# Altium footprint library ZICM2410 Eva Kit PCB 5.0.PcbLib: 38 footprints (part 2 of 3)
Each footprint in its own frame and in the unit in brackets; x right, y up, seen from the top. Pads: shape width x height; smd on the part's side, far side on the other; paste and mask are expansions set on the pad; w line width, h text height; cw(c..) or ccw(c..) is an arc to the next point about the centre after c.
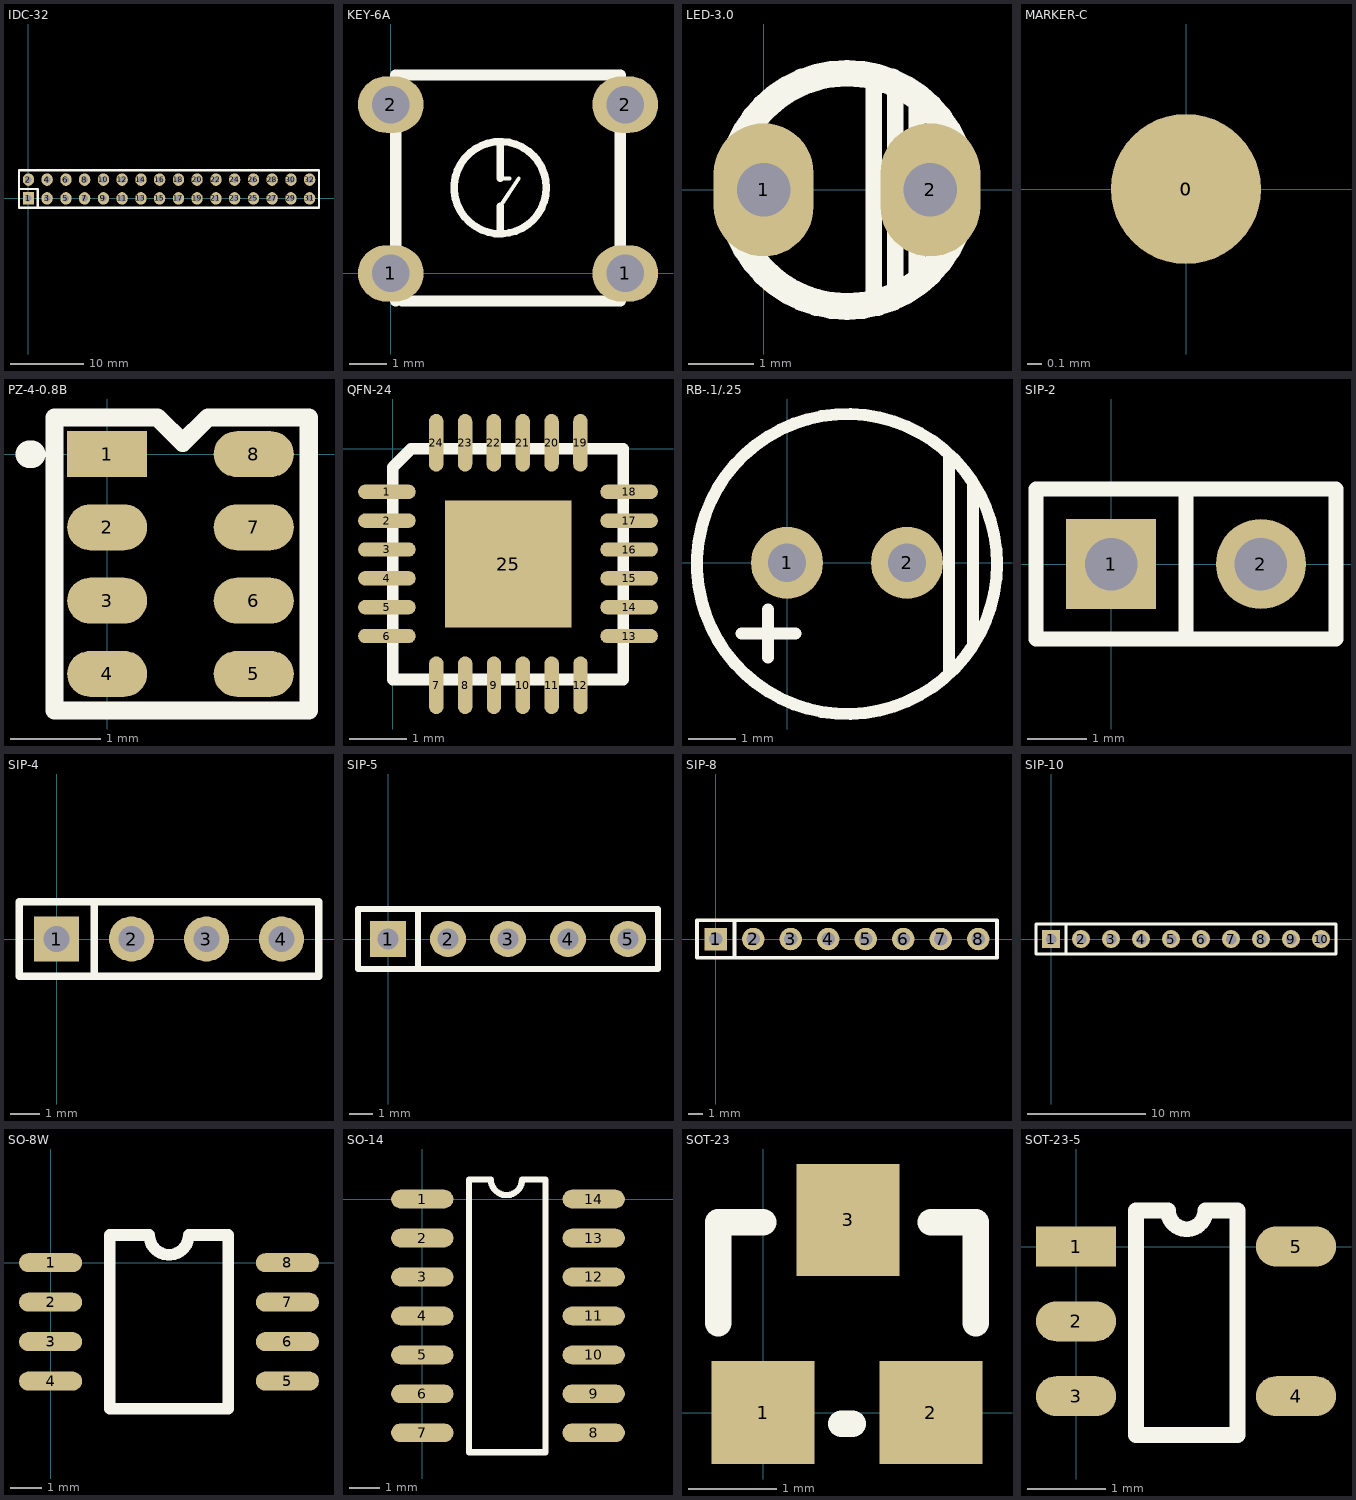
[diagram p1: the footprints below, top view; thin cyan lines are the x and y axes]

## IDC-32 [mil]
pads (32):
  rect 60x66 hole 35: 1(0,0)
  oval 60x66 hole 35: 2(0,100) 3(100,0) 4(100,100) 5(200,0) 6(200,100) 7(300,0) 8(300,100) 9(400,0) 10(400,100) 11(500,0) 12(500,100) 13(600,0) 14(600,100) 15(700,0) 16(700,100) 17(800,0) 18(800,100) 19(900,0) 20(900,100) 21(1000,0) 22(1000,100) 23(1100,0) 24(1100,100) 25(1200,0) 26(1200,100) 27(1300,0) 28(1300,100) 29(1400,0) 30(1400,100) 31(1500,0) 32(1500,100)
Top Overlay:
  lines w12: -50,50 50,50 50,-50 ; -50,-50 1550,-50 1550,150 -50,150 -50,-50

## KEY-6A [mil]
pads (4):
  oval 70x60 hole 40: 1(0,0) 1(250,0) 2(0,180) 2(250,180)
Top Overlay:
  circle w8: c116.73,91.39 r49.21
  lines w4: 116.73,71.71 136.42,101.24 ; 116.73,101.24 126.58,101.24
  lines w8: 116.73,42.18 116.73,71.71 ; 116.73,101.23 116.73,140.61
  lines w12: 5.32,-29.47 5.32,211.47 244.69,211.47 244.69,-29.47 12.21,-29.47

## LED-3.0 [mil]
pads (2):
  oval 60x80 hole 32: 1(0,0) 2(100,0)
Top Overlay:
  circle w16: c50,0 r70
  lines w10: 66,-70 66,71 ; 79,-66 79,60 ; 92,-57 92,56

## MARKER-C [mil]
height 149.61
pads (2):
  round 40 smd: 0(0,0)
  round 80 on Top Solder: 0(0,0)

## PZ-4-0.8B [mil]
height 374.02
pads (8):
  rect 35x20 smd: 1(0,0)
  oval 35x20 smd: 2(0,-32) 3(0,-64) 4(0,-96) 5(64,-96) 6(64,-64) 7(64,-32) 8(64,0)
Top Overlay:
  lines w8: -23,-112 88,-112 88,16 44,16 33,5 22,16 -23,16 -23,-112
  lines w12: -34,0 -33,0

## QFN-24 [mm]
height 8
pads (25):
  oval 1x0.25 smd: 1(-0.099,-0.748) 2(-0.099,-1.248) 3(-0.099,-1.748) 4(-0.099,-2.248) 5(-0.099,-2.748) 6(-0.099,-3.248) 13(4.1,-3.248) 14(4.1,-2.748) 15(4.1,-2.248) 16(4.1,-1.748) 17(4.1,-1.248) 18(4.1,-0.748)
  oval 0.25x1 smd: 7(0.757,-4.1) 8(1.257,-4.1) 9(1.757,-4.1) 10(2.257,-4.1) 11(2.757,-4.1) 12(3.257,-4.1) 19(3.256,0.102) 20(2.756,0.102) 21(2.256,0.102) 22(1.756,0.102) 23(1.256,0.102) 24(0.756,0.102)
  rect 2.2x2.2 smd: 25(2.004,-1.999)
Top Overlay:
  lines w0.203: 0,-1.044 0,-0.861 ; 0,-4 0,-0.32 0.32,0 4,0 4,-4 0,-4

## RB-.1/.25 [mil]
height 374.02
pads (2):
  round 60 hole 32: 1(0,0) 2(100,0)
Top Overlay:
  circle w10: c50,-1 r125
  lines w10: -38,-59 7,-59 ; -16,-79 -16,-39 ; 135,-91 135,89 ; 155,-66 155,64

## SIP-2 [mil]
height 374.02
pads (2):
  rect 60x60 hole 35: 1(0,0)
  round 60 hole 35: 2(100,0)
Top Overlay:
  lines w10: 50,-50 50,50 ; -50,-50 -50,50 150,50 150,-50 -50,-50

## SIP-4 [mil]
pads (4):
  rect 60x60 hole 35: 1(0,0)
  round 60 hole 35: 2(100,0) 3(200,0) 4(300,0)
Top Overlay:
  lines w10: 50,-50 50,50 ; -50,-50 350,-50 350,50 -50,50 -50,-50

## SIP-5 [mil]
pads (5):
  rect 60x60 hole 35: 1(0,0)
  round 60 hole 35: 2(100,0) 3(200,0) 4(300,0) 5(400,0)
Top Overlay:
  lines w10: 50,-50 50,50 ; -50,-50 450,-50 450,50 -50,50 -50,-50

## SIP-8 [mil]
pads (8):
  rect 60x60 hole 35: 1(0,0)
  round 60 hole 35: 2(100,0) 3(200,0) 4(300,0) 5(400,0) 6(500,0) 7(600,0) 8(700,0)
Top Overlay:
  lines w10: 50,-50 50,50 ; -50,-50 -50,50 750,50 750,-50 -50,-50

## SIP-10 [mil]
pads (10):
  rect 60x60 hole 35: 1(0,0)
  round 60 hole 35: 2(100,0) 3(200,0) 4(300,0) 5(400,0) 6(500,0) 7(600,0) 8(700,0) 9(800,0) 10(900,0)
Top Overlay:
  lines w10: 50,-50 50,50 ; -50,-50 950,-50 950,50 -50,50 -50,-50

## SO-8W [mil]
pads (8):
  oval 80x24 smd: 1(0,0) 2(0,-50) 3(0,-100) 4(0,-150) 5(300,-150) 6(300,-100) 7(300,-50) 8(300,0)
Top Overlay:
  lines w15: 75,-185 225,-185 225,35 175,35 cw(c150,35) 125,35 75,35 75,-185

## SO-14 [mil]
pads (14):
  oval 80x24 smd: 1(0,0) 2(0,-50) 3(0,-100) 4(0,-150) 5(0,-200) 6(0,-250) 7(0,-300) 8(220,-300) 9(220,-250) 10(220,-200) 11(220,-150) 12(220,-100) 13(220,-50) 14(220,0)
Top Overlay:
  lines w8: 60,-325 158,-325 158,25 128,25 cw(c108,25) 88,25 60,25 60,-325

## SOT-23 [mil]
height 149.61
pads (3):
  rect 46x46 smd: 1(0,0) 2(75,0)
  rect 46x50 smd: 3(38,86)
Top Overlay:
  lines w12: -20,40 -20,85 0,85 ; 35,-5 40,-5 ; 75,85 95,85 95,40

## SOT-23-5 [mil]
pads (5):
  rect 40x20 smd: 1(0,0)
  oval 40x20 smd: 2(0,-37.4) 3(0,-74.8) 4(110,-74.8) 5(110,0)
Top Overlay:
  lines w7.87: 30,18 30,-94.2 80.7,-94.2 80.7,18 ; 46,18 ccw(c55.35,18) 64.7,18
  lines w8: 30,18 46,18 ; 64.7,18 80.7,18